# Altium integrated library Renesas Microcontroller R32C.IntLib: 205 symbols (part 22 of 22)
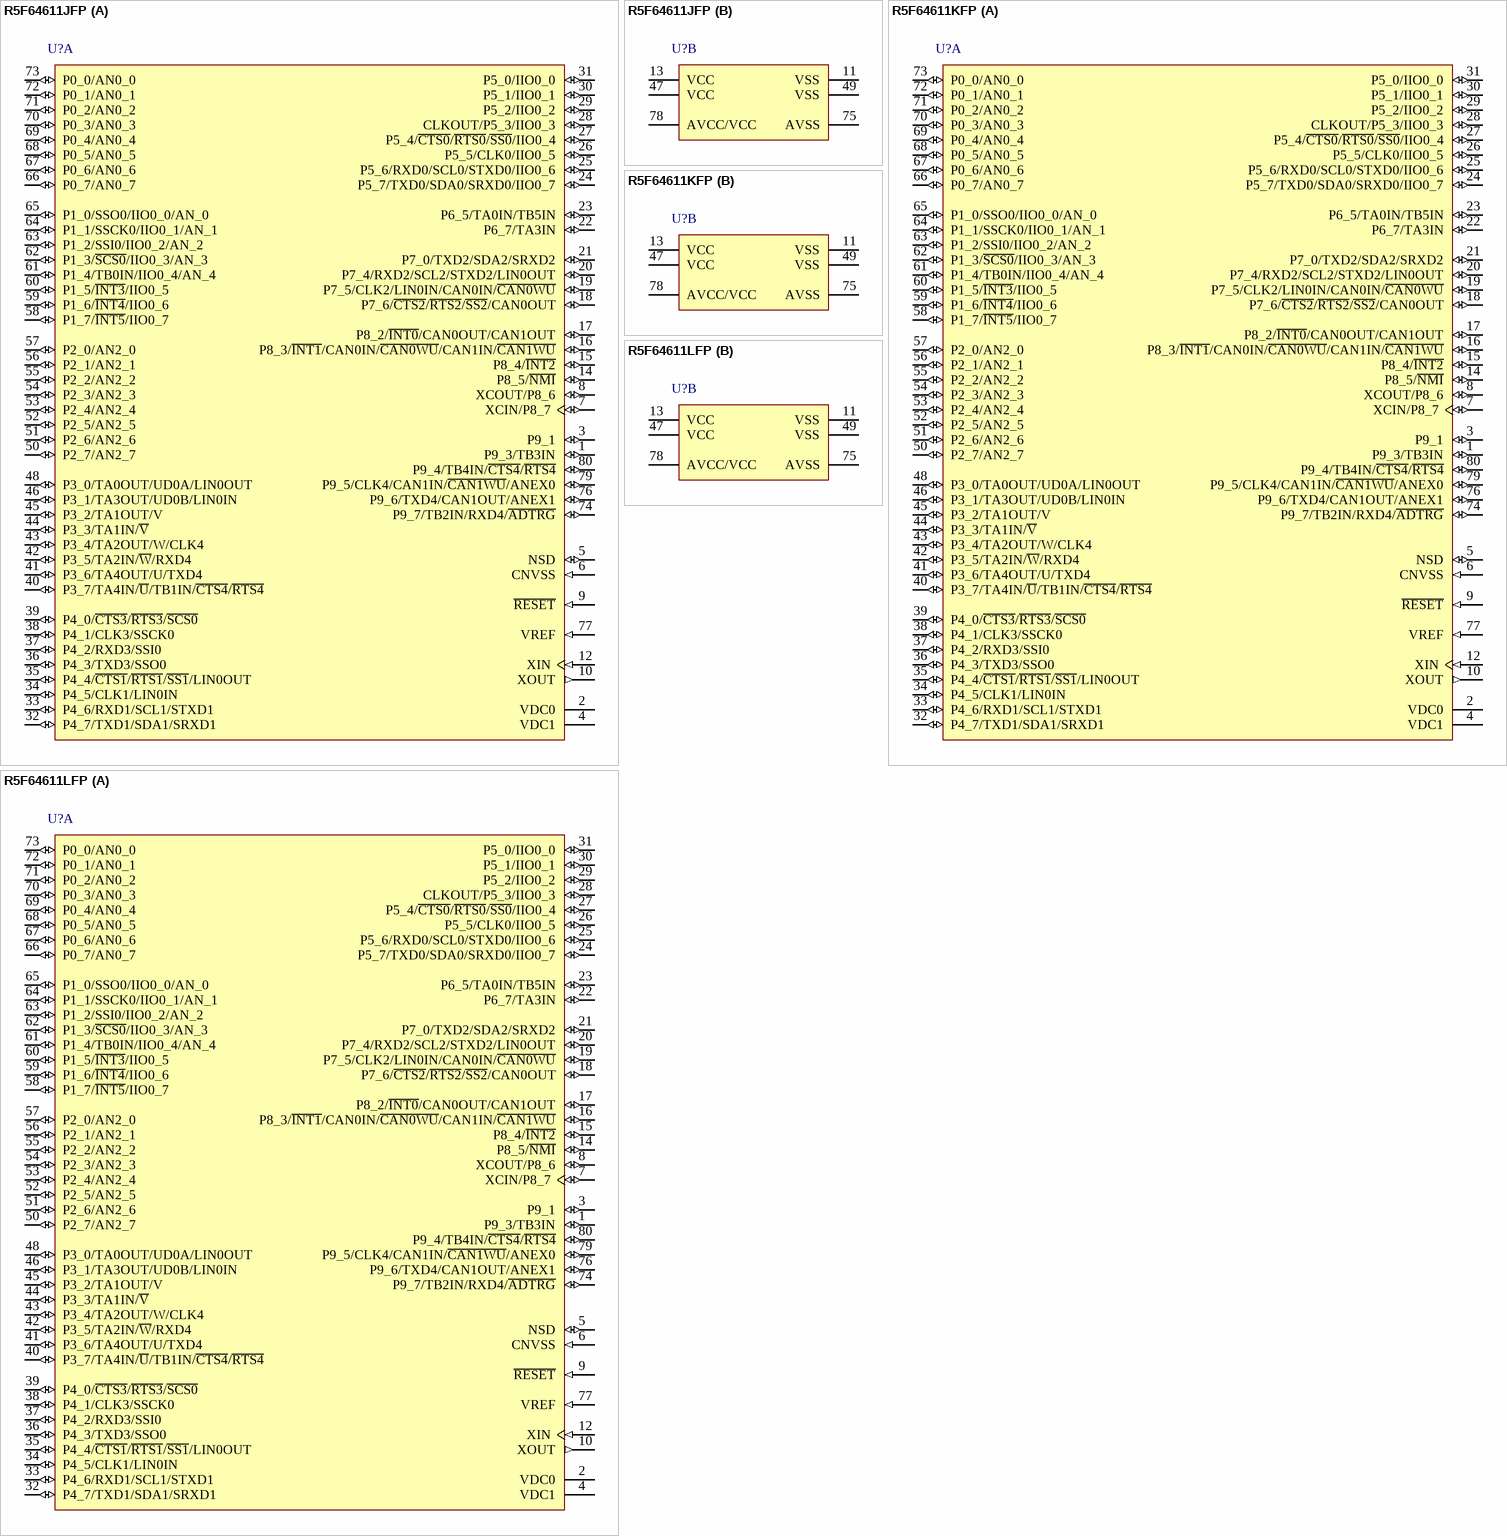
[diagram p160: symbols R5F64611JFP to R5F64611LFP]

## R5F64611KFP
designator U?
Flash Memory R32C/100 Series, 161 Group MCU, 256K + 12K ROM, 20K RAM, 80-pin LQFP, Version K; Published: 28-Aug-2009; LatestRevisionDate: 26-Feb-2010; LatestRevisionNote: Updated to datasheet revision 1.01 Dec-2009.; DatasheetVersion: Rev.1.01, Dec-2009; PackageVersion: Sep-2005; PackageReference: PLQP0080KB-A; Publisher: Altium Limited; PackageDescription: 80-Pin Plastic Low Profile QFP, 12 x 12 x 1.4 mm Body, 0.5 mm Pitch; Code_JEITA: P-LQFP80-12x12-0.50; Code_IPC: SQFP50P1400X1400-80; ComponentLink1Description: Manufacturer Link; ComponentLink1URL: http://sg.renesas.com/fmwk.jsp?cnt=m16c_family_landing.jsp&fp=/products/mpumcu/m16c_family/; ComponentLink2Description: Datasheet; ComponentLink2URL: http://documentation.renesas.com/eng/products/mpumcu/rej03b0241_r32c161ds.pdf; ComponentLink3Description: Packaging Specification; ComponentLink3URL: http://sg.renesas.com/media/products/common_info/package/pdf/ic/code/plqp0080kb_a.pdf
footprint PLQP0080KB-A_N (Shrink QFP, 80-Leads, Body 12x12mm, Pitch 0.5mm, IPC Medium Density)
footprint PLQP0080KB-A_L (Shrink QFP, 80-Leads, Body 12x12mm, Pitch 0.5mm, IPC High Density)
footprint PLQP0080KB-A_M (Shrink QFP, 80-Leads, Body 12x12mm, Pitch 0.5mm, IPC Low Density)
part A pins: 1 P9_3/TB3IN (io), 2 VDC0, 3 P9_1 (io), 4 VDC1, 5 NSD (io), 6 CNVSS (in), 7 XCIN/P8_7 (io), 8 XCOUT/P8_6 (io), 9 ~{RESET} (in), 10 XOUT (out), 12 XIN (in), 14 P8_5/~{NMI} (io), 15 P8_4/~{INT2} (io), 16 P8_3/~{INT1}/CAN0IN/~{CAN0WU}/CAN1IN/~{CAN1WU} (io), 17 P8_2/~{INT0}/CAN0OUT/CAN1OUT (io), 18 P7_6/~{CTS2}/~{RTS2}/~{SS2}/CAN0OUT (io), 19 P7_5/CLK2/LIN0IN/CAN0IN/~{CAN0WU} (io), 20 P7_4/RXD2/SCL2/STXD2/LIN0OUT (io), 21 P7_0/TXD2/SDA2/SRXD2 (io), 22 P6_7/TA3IN (io), 23 P6_5/TA0IN/TB5IN (io), 24 P5_7/TXD0/SDA0/SRXD0/IIO0_7 (io), 25 P5_6/RXD0/SCL0/STXD0/IIO0_6 (io), 26 P5_5/CLK0/IIO0_5 (io), 27 P5_4/~{CTS0}/~{RTS0}/~{SS0}/IIO0_4 (io), 28 CLKOUT/P5_3/IIO0_3 (io), 29 P5_2/IIO0_2 (io), 30 P5_1/IIO0_1 (io), 31 P5_0/IIO0_0 (io), 32 P4_7/TXD1/SDA1/SRXD1 (io), 33 P4_6/RXD1/SCL1/STXD1 (io), 34 P4_5/CLK1/LIN0IN (io), 35 P4_4/~{CTS1}/~{RTS1}/~{SS1}/LIN0OUT (io), 36 P4_3/TXD3/SSO0 (io), 37 P4_2/RXD3/SSI0 (io), 38 P4_1/CLK3/SSCK0 (io), 39 P4_0/~{CTS3}/~{RTS3}/~{SCS0} (io), 40 P3_7/TA4IN/~{U}/TB1IN/~{CTS4}/~{RTS4} (io), 41 P3_6/TA4OUT/U/TXD4 (io), 42 P3_5/TA2IN/~{W}/RXD4 (io), 43 P3_4/TA2OUT/W/CLK4 (io), 44 P3_3/TA1IN/~{V} (io), 45 P3_2/TA1OUT/V (io), 46 P3_1/TA3OUT/UD0B/LIN0IN (io), 48 P3_0/TA0OUT/UD0A/LIN0OUT (io), 50 P2_7/AN2_7 (io), 51 P2_6/AN2_6 (io), 52 P2_5/AN2_5 (io), 53 P2_4/AN2_4 (io), 54 P2_3/AN2_3 (io), 55 P2_2/AN2_2 (io), 56 P2_1/AN2_1 (io), 57 P2_0/AN2_0 (io), 58 P1_7/~{INT5}/IIO0_7 (io), 59 P1_6/~{INT4}/IIO0_6 (io), 60 P1_5/~{INT3}/IIO0_5 (io), 61 P1_4/TB0IN/IIO0_4/AN_4 (io), 62 P1_3/~{SCS0}/IIO0_3/AN_3 (io), 63 P1_2/SSI0/IIO0_2/AN_2 (io), 64 P1_1/SSCK0/IIO0_1/AN_1 (io), 65 P1_0/SSO0/IIO0_0/AN_0 (io), 66 P0_7/AN0_7 (io), 67 P0_6/AN0_6 (io), 68 P0_5/AN0_5 (io), 69 P0_4/AN0_4 (io), 70 P0_3/AN0_3 (io), 71 P0_2/AN0_2 (io), 72 P0_1/AN0_1 (io), 73 P0_0/AN0_0 (io), 74 P9_7/TB2IN/RXD4/~{ADTRG} (io), 76 P9_6/TXD4/CAN1OUT/ANEX1 (io), 77 VREF (in), 79 P9_5/CLK4/CAN1IN/~{CAN1WU}/ANEX0 (io), 80 P9_4/TB4IN/~{CTS4}/~{RTS4} (io)
part B pins: 11 VSS (power), 13 VCC (power), 47 VCC (power), 49 VSS (power), 75 AVSS (power), 78 AVCC/VCC (power)

## R5F64611LFP
designator U?
Flash Memory R32C/100 Series, 161 Group MCU, 256K + 12K ROM, 20K RAM, 80-pin LQFP, Version L; Published: 28-Aug-2009; LatestRevisionDate: 26-Feb-2010; LatestRevisionNote: Updated to datasheet revision 1.01 Dec-2009.; DatasheetVersion: Rev.1.01, Dec-2009; PackageVersion: Sep-2005; PackageReference: PLQP0080KB-A; Publisher: Altium Limited; PackageDescription: 80-Pin Plastic Low Profile QFP, 12 x 12 x 1.4 mm Body, 0.5 mm Pitch; Code_JEITA: P-LQFP80-12x12-0.50; Code_IPC: SQFP50P1400X1400-80; ComponentLink1Description: Manufacturer Link; ComponentLink1URL: http://sg.renesas.com/fmwk.jsp?cnt=m16c_family_landing.jsp&fp=/products/mpumcu/m16c_family/; ComponentLink2Description: Datasheet; ComponentLink2URL: http://documentation.renesas.com/eng/products/mpumcu/rej03b0241_r32c161ds.pdf; ComponentLink3Description: Packaging Specification; ComponentLink3URL: http://sg.renesas.com/media/products/common_info/package/pdf/ic/code/plqp0080kb_a.pdf
footprint PLQP0080KB-A_N (Shrink QFP, 80-Leads, Body 12x12mm, Pitch 0.5mm, IPC Medium Density)
footprint PLQP0080KB-A_L (Shrink QFP, 80-Leads, Body 12x12mm, Pitch 0.5mm, IPC High Density)
footprint PLQP0080KB-A_M (Shrink QFP, 80-Leads, Body 12x12mm, Pitch 0.5mm, IPC Low Density)
part A pins: 1 P9_3/TB3IN (io), 2 VDC0, 3 P9_1 (io), 4 VDC1, 5 NSD (io), 6 CNVSS (in), 7 XCIN/P8_7 (io), 8 XCOUT/P8_6 (io), 9 ~{RESET} (in), 10 XOUT (out), 12 XIN (in), 14 P8_5/~{NMI} (io), 15 P8_4/~{INT2} (io), 16 P8_3/~{INT1}/CAN0IN/~{CAN0WU}/CAN1IN/~{CAN1WU} (io), 17 P8_2/~{INT0}/CAN0OUT/CAN1OUT (io), 18 P7_6/~{CTS2}/~{RTS2}/~{SS2}/CAN0OUT (io), 19 P7_5/CLK2/LIN0IN/CAN0IN/~{CAN0WU} (io), 20 P7_4/RXD2/SCL2/STXD2/LIN0OUT (io), 21 P7_0/TXD2/SDA2/SRXD2 (io), 22 P6_7/TA3IN (io), 23 P6_5/TA0IN/TB5IN (io), 24 P5_7/TXD0/SDA0/SRXD0/IIO0_7 (io), 25 P5_6/RXD0/SCL0/STXD0/IIO0_6 (io), 26 P5_5/CLK0/IIO0_5 (io), 27 P5_4/~{CTS0}/~{RTS0}/~{SS0}/IIO0_4 (io), 28 CLKOUT/P5_3/IIO0_3 (io), 29 P5_2/IIO0_2 (io), 30 P5_1/IIO0_1 (io), 31 P5_0/IIO0_0 (io), 32 P4_7/TXD1/SDA1/SRXD1 (io), 33 P4_6/RXD1/SCL1/STXD1 (io), 34 P4_5/CLK1/LIN0IN (io), 35 P4_4/~{CTS1}/~{RTS1}/~{SS1}/LIN0OUT (io), 36 P4_3/TXD3/SSO0 (io), 37 P4_2/RXD3/SSI0 (io), 38 P4_1/CLK3/SSCK0 (io), 39 P4_0/~{CTS3}/~{RTS3}/~{SCS0} (io), 40 P3_7/TA4IN/~{U}/TB1IN/~{CTS4}/~{RTS4} (io), 41 P3_6/TA4OUT/U/TXD4 (io), 42 P3_5/TA2IN/~{W}/RXD4 (io), 43 P3_4/TA2OUT/W/CLK4 (io), 44 P3_3/TA1IN/~{V} (io), 45 P3_2/TA1OUT/V (io), 46 P3_1/TA3OUT/UD0B/LIN0IN (io), 48 P3_0/TA0OUT/UD0A/LIN0OUT (io), 50 P2_7/AN2_7 (io), 51 P2_6/AN2_6 (io), 52 P2_5/AN2_5 (io), 53 P2_4/AN2_4 (io), 54 P2_3/AN2_3 (io), 55 P2_2/AN2_2 (io), 56 P2_1/AN2_1 (io), 57 P2_0/AN2_0 (io), 58 P1_7/~{INT5}/IIO0_7 (io), 59 P1_6/~{INT4}/IIO0_6 (io), 60 P1_5/~{INT3}/IIO0_5 (io), 61 P1_4/TB0IN/IIO0_4/AN_4 (io), 62 P1_3/~{SCS0}/IIO0_3/AN_3 (io), 63 P1_2/SSI0/IIO0_2/AN_2 (io), 64 P1_1/SSCK0/IIO0_1/AN_1 (io), 65 P1_0/SSO0/IIO0_0/AN_0 (io), 66 P0_7/AN0_7 (io), 67 P0_6/AN0_6 (io), 68 P0_5/AN0_5 (io), 69 P0_4/AN0_4 (io), 70 P0_3/AN0_3 (io), 71 P0_2/AN0_2 (io), 72 P0_1/AN0_1 (io), 73 P0_0/AN0_0 (io), 74 P9_7/TB2IN/RXD4/~{ADTRG} (io), 76 P9_6/TXD4/CAN1OUT/ANEX1 (io), 77 VREF (in), 79 P9_5/CLK4/CAN1IN/~{CAN1WU}/ANEX0 (io), 80 P9_4/TB4IN/~{CTS4}/~{RTS4} (io)
part B pins: 11 VSS (power), 13 VCC (power), 47 VCC (power), 49 VSS (power), 75 AVSS (power), 78 AVCC/VCC (power)